# Altium schematic symbol library CBC3225T330KR.SchLib: 2 symbols
Pins are listed as number, name and electrical type; pins without a type are passive.

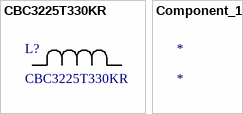
[diagram p0: symbols CBC3225T330KR to Component_1]

## CBC3225T330KR
designator L?
No Description Available; Mfr_Name: Taiyo Yuden; Type: DEV; Copyright: Copyright (C) 2022 Ultra Librarian. All rights reserved.; Manufacturer_Part_Number: CBC3225T330KR; Digi-Key_Part_Number_1: 587-3068-1-ND; Digi-Key_Part_Number_2: 587-3068-2-ND; Digi-Key_Part_Number_3: 587-3068-6-ND; RefDes: RefDes
footprint IND_TAIYO_CBC3225_TAY
pins: 1, 2

## Component_1
designator *